# Altium footprint library MELF-D3513-1405.PcbLib: 1 footprints
Each footprint in its own frame and in the unit in brackets; x right, y up, seen from the top. Pads: shape width x height; smd on the part's side, far side on the other; paste and mask are expansions set on the pad; w line width, h text height; cw(c..) or ccw(c..) is an arc to the next point about the centre after c.
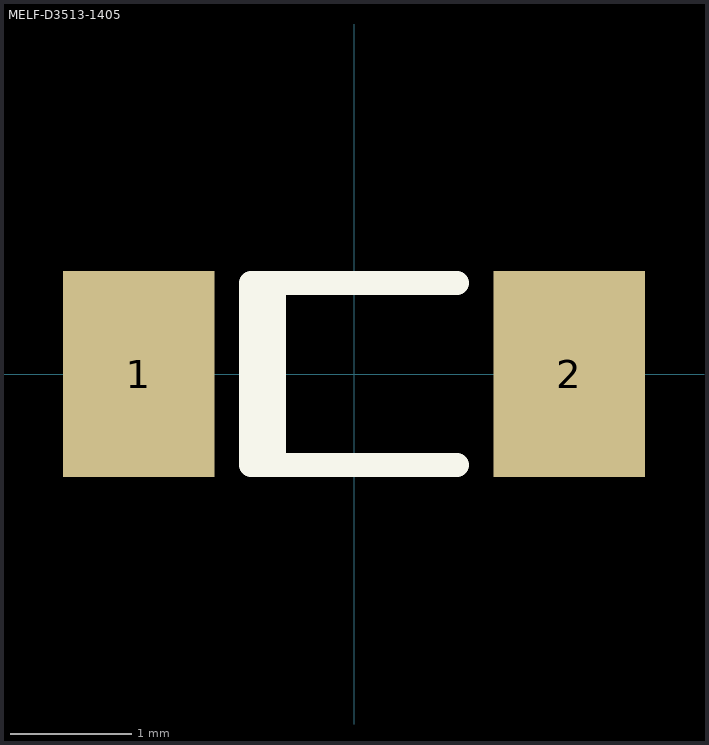
[diagram p0: the footprint, top view; thin cyan lines are the x and y axes]

## MELF-D3513-1405 [mm] "Metal Electrode Face (MELF) Diode; Body 3.5 x 1.6 mm (LxDia)"
height 1.6
pads (2):
  rect 1.25x1.7 smd: 1(-1.775,0) 2(1.775,0)
Top Overlay:
  lines w0.2: -0.66,-0.75 -0.66,0.75 ; 0.85,-0.75 -0.85,-0.75 -0.85,0.75 0.85,0.75
3D body: height 1.4, standoff 0, extent -1.75,-0.7 1.75,0.7